# Altium footprint library powerstream.PcbLib: 2 footprints
Each footprint in its own frame and in the unit in brackets; x right, y up, seen from the top. Pads: shape width x height; smd on the part's side, far side on the other; paste and mask are expansions set on the pad; w line width, h text height; cw(c..) or ccw(c..) is an arc to the next point about the centre after c.
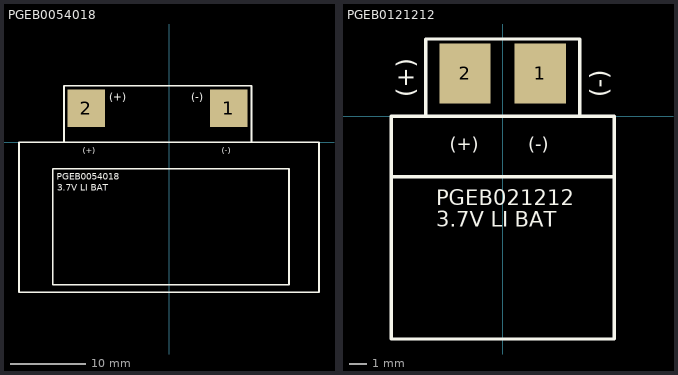
[diagram p0: the footprints below, top view; thin cyan lines are the x and y axes]

## PGEB0054018 [mm] "Powerstream 10mAh 3.7V battery 0.8x40x18mm"
pads (2):
  rect 5x5 smd: 1(8,4.5) 2(-11,4.5)
Top Overlay:
  lines w0.203: -15.5,-19 -15.5,-3.54 16,-3.54 16,-19 -15.46,-19 ; -14,0 -14,7.5 11,7.5 11,0 ; -20,-20 -20,0 20,0 20,-20 -20,-20
  text "(-)" at 3,5.5 h1.02
  text "(+)" at -8,5.5 h1.02
  text "(+)" at -11.5,-1.5 h0.76
  text "(-)" at 7,-1.5 h0.76
  text "3.7V LI BAT" at -14.89,-6.46 h0.89
  text "PGEB0054018" at -15,-5 h0.89

## PGEB0121212 [mm] "Powerstream 10mAh 3.7V battery 2x12x12.5mm"
pads (2):
  rect 3x3.5 smd: 1(2.2,2.5) 2(-2.2,2.5)
Top Overlay:
  lines w0.203: -6.5,-3.54 6.5,-3.54 ; -4.5,0 -4.5,4.5 4.5,4.5 4.5,0 ; -6.5,-13 -6.5,0 6.5,0 6.5,-13 -6.5,-13
  text "(+)" at -3.1,-2 h0.76
  text "(-)" at 1.5,-2 h0.76
  text "3.7V LI BAT" at -3.89,-6.46 h0.89
  text "PGEB021212" at -3.89,-5.19 h0.89
  text "(+)" at -5.2,1.1 h1.02
  text "(-)" at 6.1,1.1 h1.02